# EAGLE library part STM32F415 (library Micromouse)
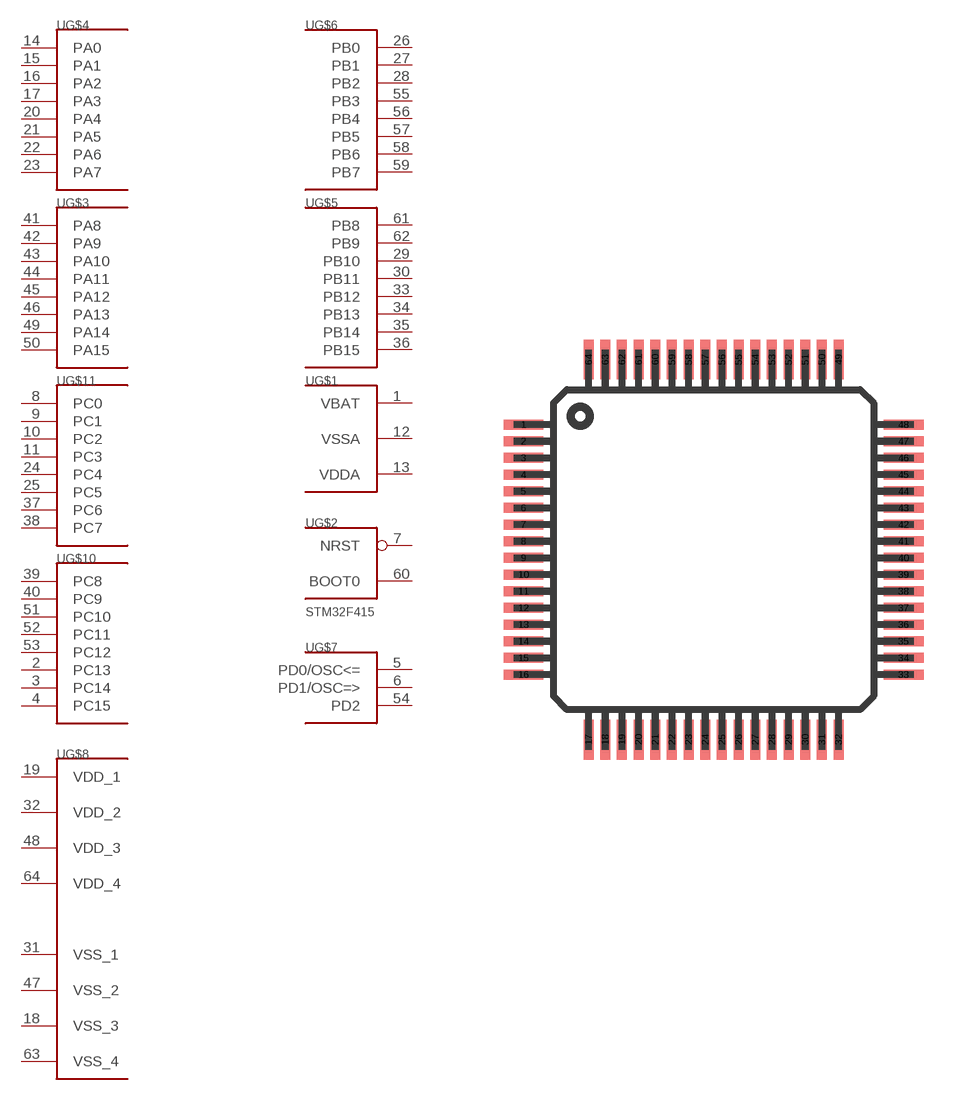
[diagram p0: symbol with the pads of TQFP64; footprint TQFP64]

Designator prefix -; gates G$1=BAT_AN_M G$2=BOOT_RST G$3=PORT_A_H G$4=PORT_A_L G$5=PORT_B_H G$6=PORT_B_L G$10=PORT_C_H G$11=PORT_C_L G$7=PORT_D_3 G$8=VCC_VDD_M

## STM32F415  [TQFP64]
1  G$1:VBAT  pwr
2  G$10:PC13
3  G$10:PC14
4  G$10:PC15
5  G$7:PD0/OSC<=
6  G$7:PD1/OSC=>
7  G$2:NRST  in
8  G$11:PC0
9  G$11:PC1
10  G$11:PC2
11  G$11:PC3
12  G$1:VSSA  pwr
13  G$1:VDDA  pwr
14  G$4:PA0
15  G$4:PA1
16  G$4:PA2
17  G$4:PA3
18  G$8:VSS_3  pwr
19  G$8:VDD_1  pwr
20  G$4:PA4
21  G$4:PA5
22  G$4:PA6
23  G$4:PA7
24  G$11:PC4
25  G$11:PC5
26  G$6:PB0
27  G$6:PB1
28  G$6:PB2
29  G$5:PB10
30  G$5:PB11
31  G$8:VSS_1  pwr
32  G$8:VDD_2  pwr
33  G$5:PB12
34  G$5:PB13
35  G$5:PB14
36  G$5:PB15
37  G$11:PC6
38  G$11:PC7
39  G$10:PC8
40  G$10:PC9
41  G$3:PA8
42  G$3:PA9
43  G$3:PA10
44  G$3:PA11
45  G$3:PA12
46  G$3:PA13
47  G$8:VSS_2  pwr
48  G$8:VDD_3  pwr
49  G$3:PA14
50  G$3:PA15
51  G$10:PC10
52  G$10:PC11
53  G$10:PC12
54  G$7:PD2
55  G$6:PB3
56  G$6:PB4
57  G$6:PB5
58  G$6:PB6
59  G$6:PB7
60  G$2:BOOT0  in
61  G$5:PB8
62  G$5:PB9
63  G$8:VSS_4  pwr
64  G$8:VDD_4  pwr

## Footprint TQFP64 (pad centres in mm)
smd 1.2 x 0.3: 1 -5.7,3.75; 2 -5.7,3.25; 3 -5.7,2.75; 4 -5.7,2.25; 5 -5.7,1.75; 6 -5.7,1.25; 7 -5.7,0.75; 8 -5.7,0.25; 9 -5.7,-0.25; 10 -5.7,-0.75; 11 -5.7,-1.25; 12 -5.7,-1.75; 13 -5.7,-2.25; 14 -5.7,-2.75; 15 -5.7,-3.25; 16 -5.7,-3.75; 33 5.7,-3.75; 34 5.7,-3.25; 35 5.7,-2.75; 36 5.7,-2.25; 37 5.7,-1.75; 38 5.7,-1.25; 39 5.7,-0.75; 40 5.7,-0.25; 41 5.7,0.25; 42 5.7,0.75; 43 5.7,1.25; 44 5.7,1.75; 45 5.7,2.25; 46 5.7,2.75; 47 5.7,3.25; 48 5.7,3.75
smd 0.3 x 1.2: 17 -3.75,-5.7; 18 -3.25,-5.7; 19 -2.75,-5.7; 20 -2.25,-5.7; 21 -1.75,-5.7; 22 -1.25,-5.7; 23 -0.75,-5.7; 24 -0.25,-5.7; 25 0.25,-5.7; 26 0.75,-5.7; 27 1.25,-5.7; 28 1.75,-5.7; 29 2.25,-5.7; 30 2.75,-5.7; 31 3.25,-5.7; 32 3.75,-5.7; 49 3.75,5.7; 50 3.25,5.7; 51 2.75,5.7; 52 2.25,5.7; 53 1.75,5.7; 54 1.25,5.7; 55 0.75,5.7; 56 0.25,5.7; 57 -0.25,5.7; 58 -0.75,5.7; 59 -1.25,5.7; 60 -1.75,5.7; 61 -2.25,5.7; 62 -2.75,5.7; 63 -3.25,5.7; 64 -3.75,5.7